# EAGLE library part HEADERS_11 (library Connectors)
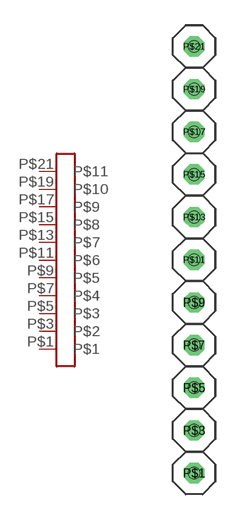
[diagram p0: symbol with the pads of HEADERS_11; footprint HEADERS_11]

Designator prefix -

## HEADERS_11  [HEADERS_11]
P$1  P$1
P$3  P$2
P$5  P$3
P$7  P$4
P$9  P$5
P$11  P$6
P$13  P$7
P$15  P$8
P$17  P$9
P$19  P$10
P$21  P$11

## Footprint HEADERS_11 (pad centres in mm)
drill 0.7 octagon: P$1 0,0; P$3 0,2.54; P$5 0,5.08; P$7 0,7.62; P$9 0,10.16; P$11 0,12.7; P$13 0,15.24; P$15 0,17.78; P$17 0,20.32; P$19 0,22.86; P$21 0,25.4
hole 0.7 at 0,0
hole 0.7 at 0,2.54
hole 0.7 at 0,5.08
hole 0.7 at 0,7.62
hole 0.7 at 0,10.16
hole 0.7 at 0,12.7
hole 0.7 at 0,15.24
hole 0.7 at 0,17.78
hole 0.7 at 0,20.32
hole 0.7 at 0,22.86
hole 0.7 at 0,25.4